# EAGLE library part CC430F613X (library TI)
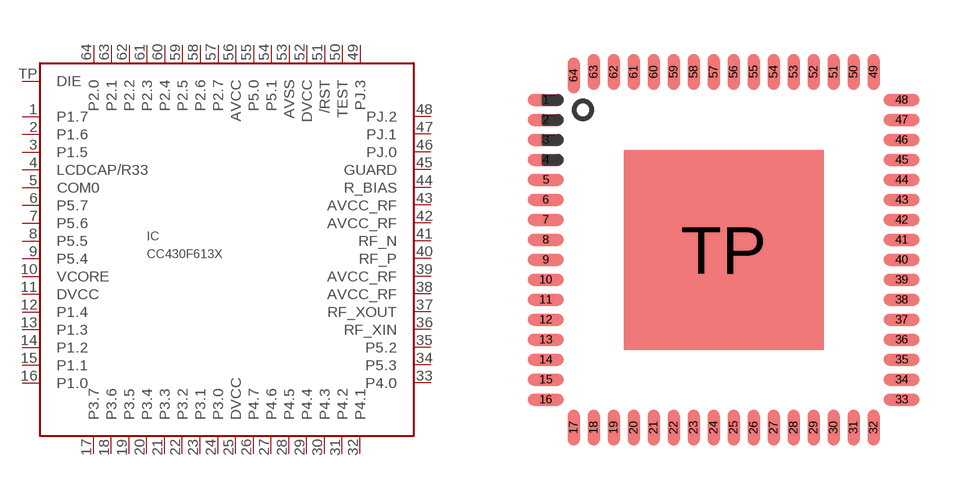
[diagram p0: symbol with the pads of S-PQFP-N64; footprint S-PQFP-N64]

Designator prefix IC

## CC430F613X  [S-PQFP-N64]
1  P1.7
2  P1.6
3  P1.5
4  LCDCAP/R33
5  COM0
6  P5.7
7  P5.6
8  P5.5
9  P5.4
10  VCORE
11  DVCC
12  P1.4
13  P1.3
14  P1.2
15  P1.1
16  P1.0
17  P3.7
18  P3.6
19  P3.5
20  P3.4
21  P3.3
22  P3.2
23  P3.1
24  P3.0
25  DVCC
26  P4.7
27  P4.6
28  P4.5
29  P4.4
30  P4.3
31  P4.2
32  P4.1
33  P4.0
34  P5.3
35  P5.2
36  RF_XIN
37  RF_XOUT
38  AVCC_RF
39  AVCC_RF
40  RF_P
41  RF_N
42  AVCC_RF
43  AVCC_RF
44  R_BIAS
45  GUARD
46  PJ.0
47  PJ.1
48  PJ.2
49  PJ.3
50  TEST
51  /RST
52  DVCC
53  AVSS
54  P5.1
55  P5.0
56  AVCC
57  P2.7
58  P2.6
59  P2.5
60  P2.4
61  P2.3
62  P2.2
63  P2.1
64  P2.0
TP  DIE

## Footprint S-PQFP-N64 (pad centres in mm)
*** TI: RTD *** JEDEC: S-PQFP-N64 *** 64 PINS *** ---> PIN 65 (exposed thermal die pad) should be connected with GND
smd 0.9 x 0.3: 1 -4.45,3.75; 2 -4.45,3.25; 3 -4.45,2.75; 4 -4.45,2.25; 5 -4.45,1.75; 6 -4.45,1.25; 7 -4.45,0.75; 8 -4.45,0.25; 9 -4.45,-0.25; 10 -4.45,-0.75; 11 -4.45,-1.25; 12 -4.45,-1.75; 13 -4.45,-2.25; 14 -4.45,-2.75; 15 -4.45,-3.25; 16 -4.45,-3.75; 33 4.45,-3.75; 34 4.45,-3.25; 35 4.45,-2.75; 36 4.45,-2.25; 37 4.45,-1.75; 38 4.45,-1.25; 39 4.45,-0.75; 40 4.45,-0.25; 41 4.45,0.25; 42 4.45,0.75; 43 4.45,1.25; 44 4.45,1.75; 45 4.45,2.25; 46 4.45,2.75; 47 4.45,3.25; 48 4.45,3.75
smd 0.3 x 0.9: 17 -3.75,-4.45; 18 -3.25,-4.45; 19 -2.75,-4.45; 20 -2.25,-4.45; 21 -1.75,-4.45; 22 -1.25,-4.45; 23 -0.75,-4.45; 24 -0.25,-4.45; 25 0.25,-4.45; 26 0.75,-4.45; 27 1.25,-4.45; 28 1.75,-4.45; 29 2.25,-4.45; 30 2.75,-4.45; 31 3.25,-4.45; 32 3.75,-4.45; 49 3.75,4.45; 50 3.25,4.45; 51 2.75,4.45; 52 2.25,4.45; 53 1.75,4.45; 54 1.25,4.45; 55 0.75,4.45; 56 0.25,4.45; 57 -0.25,4.45; 58 -0.75,4.45; 59 -1.25,4.45; 60 -1.75,4.45; 61 -2.25,4.45; 62 -2.75,4.45; 63 -3.25,4.45; 64 -3.75,4.36
smd 5 x 5: TP 0,0